# EAGLE library part AD5293 (library Marcell)
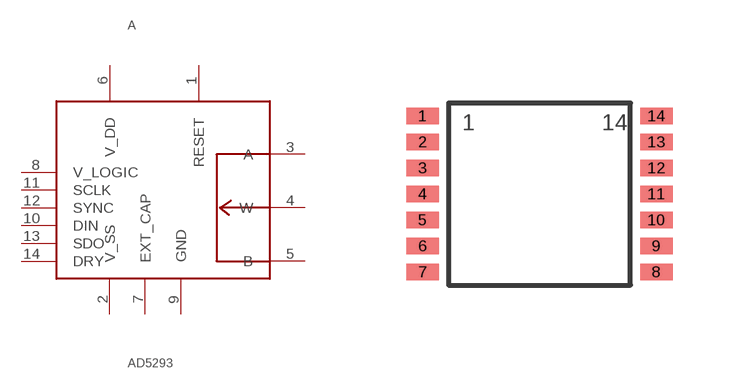
[diagram p0: symbol with the pads of TSSOP14; footprint TSSOP14]

Designator prefix A

## AD5293  [TSSOP14]
1  RESET
2  V_SS  pwr
3  A  pas
4  W  pas
5  B  pas
6  V_DD  pwr
7  EXT_CAP  pas
8  V_LOGIC
9  GND  pwr
10  DIN
11  SCLK
12  SYNC
13  SDO
14  DRY

## Footprint TSSOP14 (pad centres in mm)
smd 0.813 x 0.406: 1 -1.95,1.95; 2 -1.95,1.3; 3 -1.95,0.65; 4 -1.95,0; 5 -1.95,-0.65; 6 -1.95,-1.3; 7 -1.95,-1.95; 8 3.9,-1.95; 9 3.9,-1.3; 10 3.9,-0.65; 11 3.9,0; 12 3.9,0.65; 13 3.9,1.3; 14 3.9,1.95